# Altium footprint library MOLEX_5015680807.PcbLib: 1 footprints
Each footprint in its own frame and in the unit in brackets; x right, y up, seen from the top. Pads: shape width x height; smd on the part's side, far side on the other; paste and mask are expansions set on the pad; w line width, h text height; cw(c..) or ccw(c..) is an arc to the next point about the centre after c.
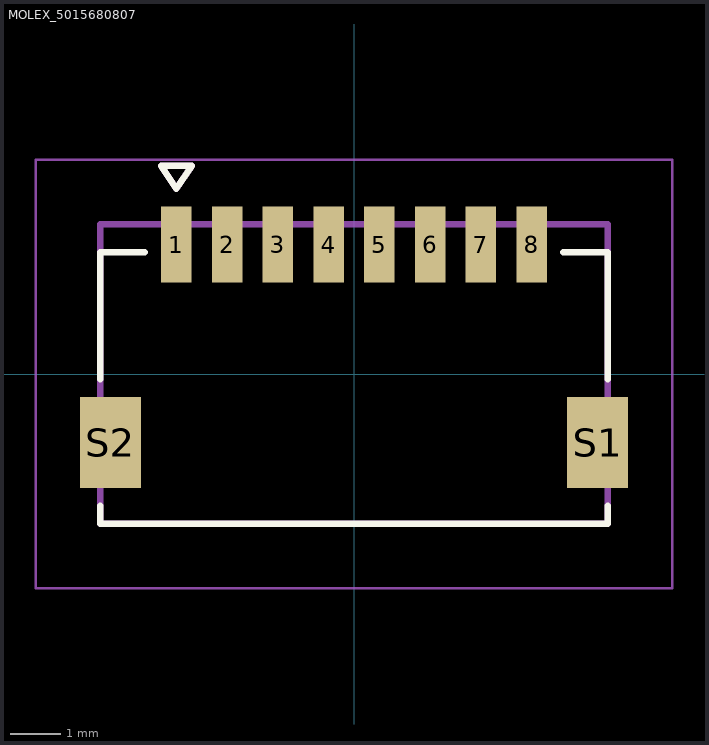
[diagram p0: the footprint, top view; thin cyan lines are the x and y axes]

## MOLEX_5015680807 [mm]
pads (10):
  rect 0.6x1.5 smd mask+0: 1(-3.5,2.55) 2(-2.5,2.55) 3(-1.5,2.55) 4(-0.5,2.55) 5(0.5,2.55) 6(1.5,2.55) 7(2.5,2.55) 8(3.5,2.55)
  rect 1.2x1.8 smd mask+0: S1(4.8,-1.35) S2(-4.8,-1.35)
Top Overlay:
  lines w0.127: -5,-2.6 -5,-2.95 5,-2.95 5,-2.6 ; -5,-0.1 -5,2.4 -4.12,2.4 ; 4.12,2.4 5,2.4 5,-0.1 ; -3.8,4.1 -3.2,4.1 -3.5,3.65 -3.8,4.1
Top Solder:
  region: -2.124,1.724 -2.876,1.724 -2.876,3.376 -2.124,3.376
  region: -3.124,1.724 -3.876,1.724 -3.876,3.376 -3.124,3.376
  region: -4.124,-2.326 -5.476,-2.326 -5.476,-0.374 -4.124,-0.374
  region: 5.476,-2.326 4.124,-2.326 4.124,-0.374 5.476,-0.374
  region: -1.124,1.724 -1.876,1.724 -1.876,3.376 -1.124,3.376
  region: -0.124,1.724 -0.876,1.724 -0.876,3.376 -0.124,3.376
  region: 0.876,1.724 0.124,1.724 0.124,3.376 0.876,3.376
  region: 1.876,1.724 1.124,1.724 1.124,3.376 1.876,3.376
  region: 2.876,1.724 2.124,1.724 2.124,3.376 2.876,3.376
  region: 3.876,1.724 3.124,1.724 3.124,3.376 3.876,3.376
Mechanical 13:
  lines w0.127: -5,-2.95 5,-2.95 5,2.95 -5,2.95 -5,-2.95 ; -3.8,4.1 -3.2,4.1 -3.5,3.65 -3.8,4.1
Mechanical 15:
  lines w0.05: -6.27,-4.22 -6.27,4.22 6.27,4.22 6.27,-4.22 -6.27,-4.22
3D body "5015680807--3DModel-STEP-194946.STEP": height 4.65, standoff -0.05, extent -5,-2.929 5,2.971